# EAGLE library part UCC28951PWR (library Labops_Lib_AH)
Phase Shift Full Bridge SMPS Controller, TI, TSSOP-24
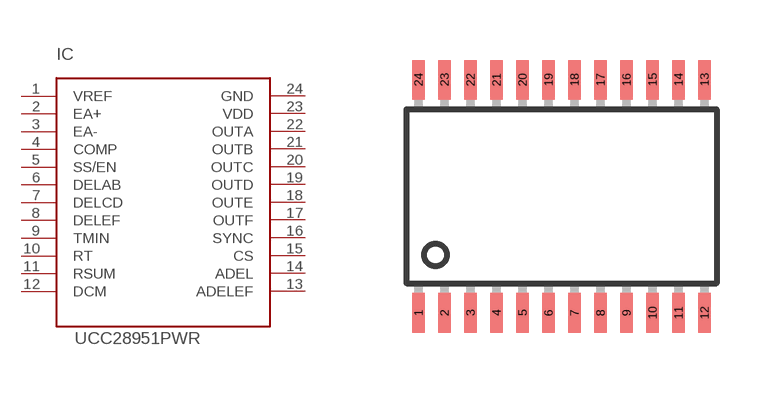
[diagram p61: symbol with the pads of TSSOP24; footprint TSSOP24]

Designator prefix IC

## UCC28951PWR (DESCRIPTION: Phase Shift Full Bridge Controller, TSSOP24; MFN: UCC28951QPWRQ1; MFR: Texas Instruments; PART_VALUE: UCC28951)  [TSSOP24]
1  VREF
2  EA+
3  EA-
4  COMP
5  SS/EN
6  DELAB
7  DELCD
8  DELEF
9  TMIN
10  RT
11  RSUM
12  DCM
13  ADELEF
14  ADEL
15  CS
16  SYNC
17  OUTF
18  OUTE
19  OUTD
20  OUTC
21  OUTB
22  OUTA
23  VDD
24  GND

## Footprint TSSOP24 (pad centres in mm)
24-Lead Thin Shrink Small Outline Package TSSOP (RU-24) Source: http://www.analog.com/UploadedFiles/Data_Sheets/39677768AD7714_c.pdf
smd 0.305 x 0.991: 1 -3.575,-2.918; 2 -2.925,-2.918; 3 -2.275,-2.918; 4 -1.625,-2.918; 5 -0.975,-2.918; 6 -0.325,-2.918; 7 0.325,-2.918; 8 0.975,-2.918; 9 1.625,-2.918; 10 2.275,-2.918; 11 2.925,-2.918; 12 3.575,-2.918; 13 3.575,2.918; 14 2.925,2.918; 15 2.275,2.918; 16 1.625,2.918; 17 0.975,2.918; 18 0.325,2.918; 19 -0.325,2.918; 20 -0.975,2.918; 21 -1.625,2.918; 22 -2.275,2.918; 23 -2.925,2.918; 24 -3.575,2.918